# Altium footprint library myPcbLib.PcbLib: 124 footprints (part 4 of 8)
Each footprint in its own frame and in the unit in brackets; x right, y up, seen from the top. Pads: shape width x height; smd on the part's side, far side on the other; paste and mask are expansions set on the pad; w line width, h text height; cw(c..) or ccw(c..) is an arc to the next point about the centre after c.
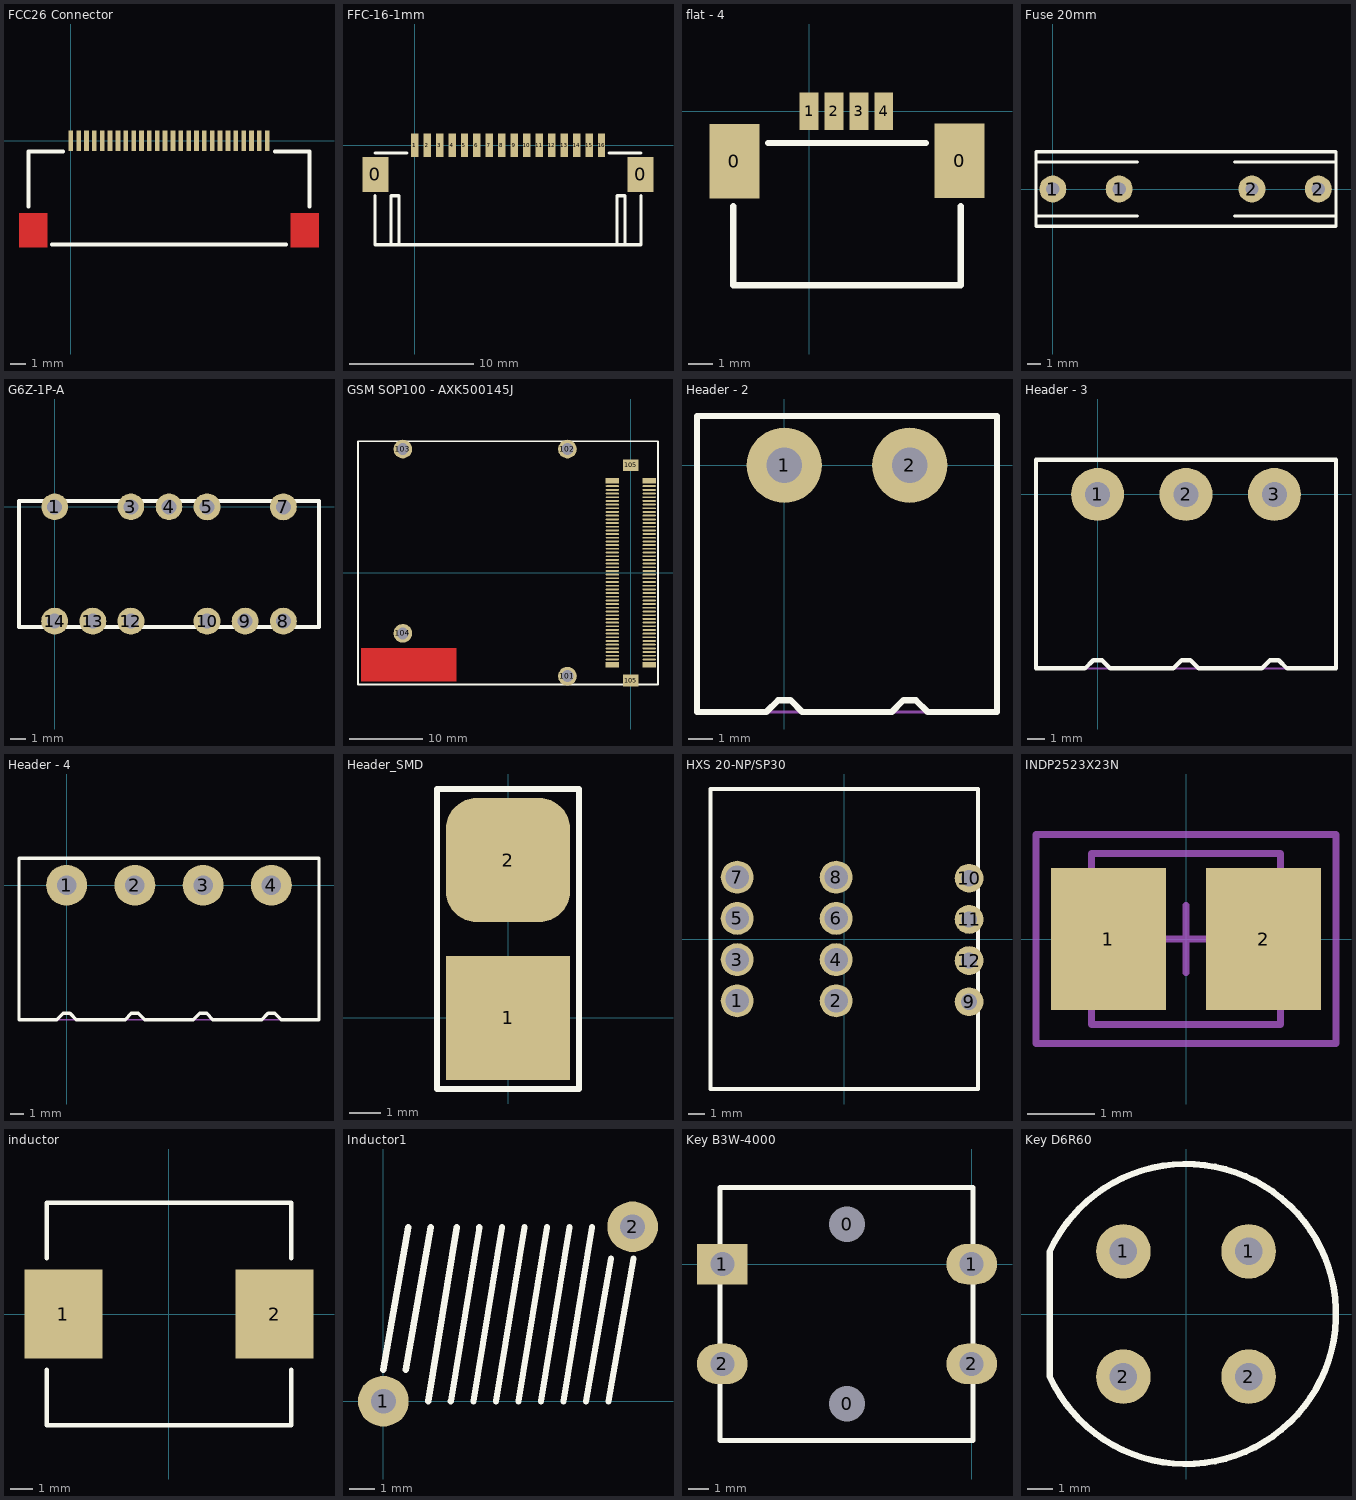
[diagram p3: the footprints below, top view; thin cyan lines are the x and y axes]

## FCC26 Connector [mm]
pads (26):
  rect 0.3x1.3 smd: 1(0,0) 2(0.5,0) 3(1,0) 4(1.5,0) 5(2,0) 6(2.5,0) 7(3,0) 8(3.5,0) 9(4,0) 10(4.5,0) 11(5,0) 12(5.5,0) 13(6,0) 14(6.5,0) 15(7,0) 16(7.5,0) 17(8,0) 18(8.5,0) 19(9,0) 20(9.5,0) 21(10,0) 22(10.5,0) 23(11,0) 24(11.5,0) 25(12,0) 26(12.5,0)
Top Layer:
  region: 15.8,-4.6 14,-4.6 14,-6.8 15.8,-6.8
  rectangle: -3.3,-6.8 -1.5,-4.6
Top Overlay:
  lines w0.254: -2.7,-4.2 -2.7,-0.7 -0.5,-0.7 ; -1.2,-6.6 13.7,-6.6 ; 13,-0.7 15.2,-0.7 15.2,-4.2

## FFC-16-1mm [mm] "FFC, 16 way, 1 mm"
pads (19):
  rect 2.1x2.8 smd: 0(-3.15,-2.35) 0(18.136,-2.35)
  rect 0.6x1.9 smd: 1(0,0) 1(0,0) 2(1,0) 3(2,0) 4(3,0) 5(4,0) 6(5,0) 7(6,0) 8(7,0) 9(8,0) 10(9,0) 11(10,0) 12(11,0) 13(12,0) 14(13,0) 15(14,0) 16(15,0)
Top Overlay:
  lines w0.254: -3.175,-4.064 -3.175,-8.001 18.161,-8.001 18.161,-4.064 ; -3.175,-0.635 -0.635,-0.635 ; -1.905,-8.001 -1.905,-4.064 -1.27,-4.064 -1.27,-8.001 ; 15.621,-0.635 18.161,-0.635 ; 16.256,-8.001 16.256,-4.064 16.891,-4.064 16.891,-8.001

## flat - 4 [mm]
pads (6):
  rect 2x3 smd: 0(-3,-2) 0(6.048,-1.984)
  rect 0.76x1.5 smd: 1(0,0) 2(1,0) 3(2,0) 4(3,0)
Top Overlay:
  lines w0.254: -3.048,-3.81 -3.048,-6.985 6.096,-6.985 6.096,-3.81 ; -1.651,-1.27 4.699,-1.27

## Fuse 20mm [mil] "Fuse holder 20mm"
pads (4):
  round 80 hole 39.37: 1(0,0) 1(196.85,0) 2(590.55,0) 2(787.4,0)
Top Overlay:
  lines w10: -50,-80 250,-80 ; -50,80 250,80 ; 540,-80 840,-80 ; 540,80 840,80 ; -50,-110 -50,110 840,110 840,-110 -50,-110

## G6Z-1P-A [mm] "relay"
pads (11):
  round 1.778 hole 1: 1(0,0) 3(5.08,0) 4(7.62,0)
  round 1.8 hole 1: 5(10.16,0) 7(15.24,0) 8(15.24,-7.62) 9(12.7,-7.62) 10(10.16,-7.62) 12(5.08,-7.62) 13(2.54,-7.62) 14(0,-7.62)
Top Overlay:
  lines w0.254: -2.38,-8.01 7.62,-8.01 17.62,-8.01 17.62,-3.81 17.62,0.39 7.62,0.39 -2.38,0.39 -2.38,-3.81 -2.38,-8.01

## GSM SOP100 - AXK500145J [mm]
pads (106):
  rect 1.8x0.75 smd: 1(2.515,12.518) 2(-2.485,12.518) 99(2.515,-12.482) 100(-2.485,-12.482)
  oval 1.8x0.25 smd: 3(2.515,11.768) 4(-2.485,11.768) 5(2.515,11.268) 6(-2.485,11.268) 7(2.515,10.768) 8(-2.485,10.768) 9(2.515,10.268) 10(-2.485,10.268) 11(2.515,9.768) 12(-2.485,9.768) 13(2.515,9.268) 14(-2.485,9.268) 15(2.515,8.768) 16(-2.485,8.768) 17(2.515,8.268) 18(-2.485,8.268) 19(2.515,7.768) 20(-2.485,7.768) 21(2.515,7.268) 22(-2.485,7.268) 23(2.515,6.768) 24(-2.485,6.768) 25(2.515,6.268) 26(-2.485,6.268) 27(2.515,5.768) 28(-2.485,5.768) 29(2.515,5.268) 30(-2.485,5.268) 31(2.515,4.768) 32(-2.485,4.768) 33(2.515,4.268) 34(-2.485,4.268) 35(2.515,3.768) 36(-2.485,3.768) 37(2.515,3.268) 38(-2.485,3.268) 39(2.515,2.768) 40(-2.485,2.768) 41(2.515,2.268) 42(-2.485,2.268) 43(2.515,1.768) 44(-2.485,1.768) 45(2.515,1.268) 46(-2.485,1.268) 47(2.515,0.768) 48(-2.485,0.768) 49(2.515,0.268) 50(-2.485,0.268) 51(2.515,-0.232) 52(-2.485,-0.232) 53(2.515,-0.732) 54(-2.485,-0.732) 55(2.515,-1.232) 56(-2.485,-1.232) 57(2.515,-1.732) 58(-2.485,-1.732) 59(2.515,-2.232) 60(-2.485,-2.232) 61(2.515,-2.732) 62(-2.485,-2.732) 63(2.515,-3.232) 64(-2.485,-3.232) 65(2.515,-3.732) 66(-2.485,-3.732) 67(2.515,-4.232) 68(-2.485,-4.232) 69(2.515,-4.732) 70(-2.485,-4.732) 71(2.515,-5.232) 72(-2.485,-5.232) 73(2.515,-5.732) 74(-2.485,-5.732) 75(2.515,-6.232) 76(-2.485,-6.232) 77(2.515,-6.732) 78(-2.485,-6.732) 79(2.515,-7.232) 80(-2.485,-7.232) 81(2.515,-7.732) 82(-2.485,-7.732) 83(2.515,-8.232) 84(-2.485,-8.232) 85(2.515,-8.732) 86(-2.485,-8.732) 87(2.515,-9.232) 88(-2.485,-9.232) 89(2.515,-9.732) 90(-2.485,-9.732) 91(2.515,-10.232) 92(-2.485,-10.232) 93(2.515,-10.732) 94(-2.485,-10.732) 95(2.515,-11.232) 96(-2.485,-11.232) 97(2.515,-11.732) 98(-2.485,-11.732)
  round 2.54 hole 1.6: 101(-8.58,-14) 102(-8.58,16.8) 103(-30.9,16.8) 104(-30.9,-8.2)
  rect 2.1x1.6 smd: 105(0,-14.6) 105(0,14.6)
Top Layer:
  rectangle: -36.596,-14.705 -23.596,-10.16
Top Overlay:
  lines w0.254: -36.982,-15.132 -36.982,-1.118 -36.982,17.856 3.708,17.856 3.708,-0.432 3.708,-15.132 -36.982,-15.132

## Header - 2 [mil] "HEADER, RIGHT ANGLE, 5.08MM, 2WAY"
pads (2):
  round 120 hole 57.09: 1(0,0) 2(200,0)
Top Overlay:
  lines w10: -139.37,-393.7 -28.7,-393.7 -10,-375 10,-375 28.7,-393.7 60.63,-393.7 171.3,-393.7 190,-375 210,-375 228.7,-393.7 339.37,-393.7 339.37,78.74 -139.37,78.74 -139.37,-393.7
Mechanical 1:
  lines w5: -139.37,-393.7 339.37,-393.7
  text "PCB edge" at 335,-415 h20

## Header - 3 [mil] "HEADER, RIGHT ANGLE, 5.08MM, 3WAY"
pads (3):
  round 120 hole 57.09: 1(0,0) 2(200,0) 3(400,0)
Top Overlay:
  lines w10: 28.7,-393.7 10,-375 -10,-375 -28.7,-393.7 -139.37,-393.7 -139.37,78.74 539.37,78.74 539.37,-393.7 428.7,-393.7 410,-375 390,-375 371.3,-393.7 230,-393.7 ; 30,-393.7 171.3,-393.7 190,-375 210,-375 228.7,-393.7
Mechanical 1:
  lines w5: -139.37,-393.7 539.37,-393.7
  text "PCB edge" at 540,-415 h20

## Header - 4 [mil] "HEADER, RIGHT ANGLE, 5.08MM, 3WAY"
pads (4):
  round 120 hole 57.09: 1(0,0) 2(200,0) 3(400,0) 4(600,0)
Top Overlay:
  lines w10: 28.7,-393.7 10,-375 -10,-375 -28.7,-393.7 -139.37,-393.7 -139.37,78.74 739.37,78.74 739.37,-393.7 628.7,-393.7 610,-375 590,-375 571.3,-393.7 430,-393.7 ; 30,-393.7 171.3,-393.7 190,-375 210,-375 228.7,-393.7 ; 230,-393.7 371.3,-393.7 390,-375 410,-375 428.7,-393.7
Mechanical 1:
  lines w5: -139.37,-393.7 739.37,-393.7
  text "PCB edge" at 740,-415 h20

## Header_SMD [mm]
pads (2):
  rect 4x4 smd: 1(0,0)
  rrect50% 4x4 smd: 2(0,5.08)
Top Overlay:
  lines w0.2: -2.286,-2.286 2.286,-2.286 2.286,7.366 -2.286,7.366 -2.286,-2.286

## HXS 20-NP/SP30 [mm]
pads (12):
  round 2.032 hole 1.45: 1(-6.6,-3.81) 2(-0.5,-3.81) 3(-6.6,-1.27) 4(-0.5,-1.27) 5(-6.6,1.27) 6(-0.5,1.27) 7(-6.6,3.81) 8(-0.5,3.81)
  round 1.778 hole 1: 9(7.7,-3.87) 10(7.7,3.75) 11(7.7,1.21) 12(7.7,-1.33)
Top Overlay:
  lines w0.254: -8.25,-9.25 -8.25,9.25 8.25,9.25 8.25,-9.25 -8.25,-9.25

## INDP2523X23N [mm] "Precision Wire Wound Inductor, 2-Leads, Body 2,5x2,3mm, IPC Medium Density"
height 2.29
pads (2):
  rect 1.7x2.1 smd: 1(-1.15,0) 2(1.15,0)
Mechanical 13:
  lines w0.1: -1.4,-1.27 -1.4,1.27 1.4,1.27 1.4,-1.27 -1.4,-1.27
Mechanical 15:
  lines w0.1: -0.5,0 0.5,0 ; 0,-0.5 0,0.5 ; -2.225,-1.55 -2.225,1.55 2.225,1.55 2.225,-1.55 -2.225,-1.55
3D body: height 2.29, standoff 0, extent -1.4,-1.27 1.4,1.27

## inductor [mm]
pads (2):
  rect 3.5x4 smd: 1(-4.75,0) 2(4.75,0)
Top Overlay:
  lines w0.2: -5.5,-2.5 -5.5,-5 5.5,-5 5.5,-2.5 ; -5.5,2.5 -5.5,5 5.5,5 5.5,2.5

## Inductor1 [mm]
pads (2):
  round 2.032 hole 1: 1(0,0) 2(10,7)
Top Overlay:
  lines w0.254: 0,1.27 1,6.985 ; 0.903,1.27 1.903,6.985 ; 1.807,0 2.95,6.985 ; 2.71,0 3.853,6.985 ; 3.613,0 4.756,6.985 ; 4.516,0 5.659,6.985 ; 5.42,0 6.563,6.985 ; 6.323,0 7.466,6.985 ; 7.226,0 8.369,6.985 ; 8.13,0 9.13,5.715 ; 9.033,0 10.033,5.715

## Key B3W-4000 [mm]
pads (6):
  round 1.27 hole 1.8: 0(-6.25,-7) 0(-6.25,2)
  rect 2.54x2.032 hole 1.2: 1(-12.5,0)
  oval 2.54x2.032 hole 1.2: 1(0,0) 2(-12.5,-5) 2(0,-5)
Top Overlay:
  lines w0.254: -12.627,-8.85 -12.627,3.85 0.073,3.85 0.073,-8.85 -12.627,-8.85

## Key D6R60 [mm] "C&K, D6R60, spno, round, switch"
pads (4):
  round 2.184 hole 1.1: 1(-2.5,2.5) 1(2.5,2.5) 2(-2.5,-2.5) 2(2.5,-2.5)
Top Overlay:
  lines w0.254: -5.445,-2.494 ccw(c0,0) -5.445,2.494 ; -5.436,-2.489 -5.436,2.489
3D body: height 14.32, standoff -3.48, extent -5.4,-6 6,6